# Altium schematic symbol library ISP1521.SchLib: 1 symbol
Pins are listed as number, name and electrical type; pins without a type are passive.

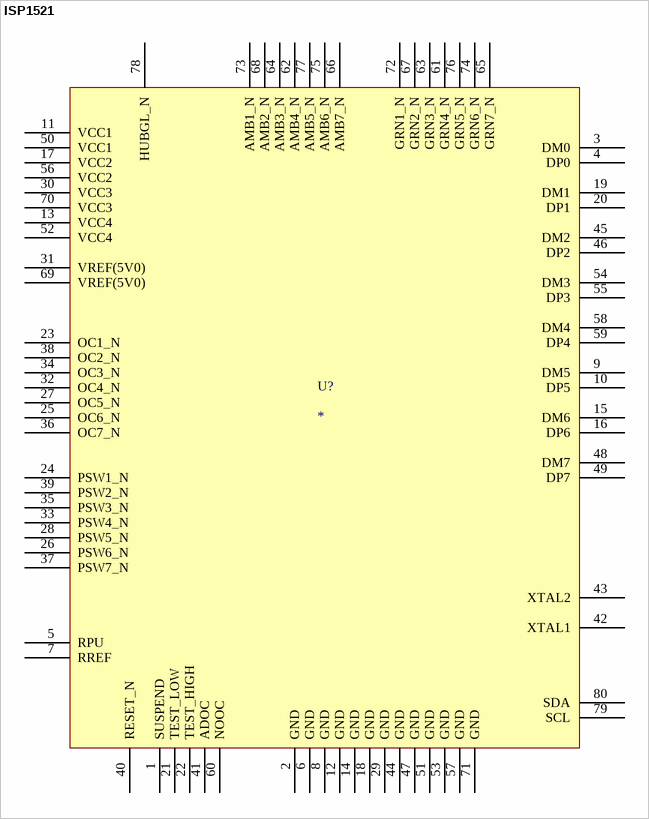
[diagram p0: symbol ISP1521]

## ISP1521
designator U?
Hi-Speed 7-Port Universal Serial Bus hub controller; Part No.: ISP1521; Manufacturer: NXP; Vendor: Digi-Key; Price Est.: $5.40
footprint SOT315-1 (LQFP80) (Footprint not found)
pins: 1 SUSPEND, 2 GND, 3 DM0, 4 DP0, 5 RPU, 6 GND, 7 RREF, 8 GND, 9 DM5, 10 DP5, 11 VCC1, 12 GND, 13 VCC4, 14 GND, 15 DM6, 16 DP6, 17 VCC2, 18 GND, 19 DM1, 20 DP1, 21 TEST_LOW, 22 TEST_HIGH, 23 OC1_N, 24 PSW1_N, 25 OC6_N, 26 PSW6_N, 27 OC5_N, 28 PSW5_N, 29 GND, 30 VCC3, 31 VREF(5V0), 32 OC4_N, 33 PSW4_N, 34 OC3_N, 35 PSW3_N, 36 OC7_N, 37 PSW7_N, 38 OC2_N, 39 PSW2_N, 40 RESET_N, 41 ADOC, 42 XTAL1, 43 XTAL2, 44 GND, 45 DM2, 46 DP2, 47 GND, 48 DM7, 49 DP7, 50 VCC1, 51 GND, 52 VCC4, 53 GND, 54 DM3, 55 DP3, 56 VCC2, 57 GND, 58 DM4, 59 DP4, 60 NOOC, 61 GRN4_N, 62 AMB4_N, 63 GRN3_N, 64 AMB3_N, 65 GRN7_N, 66 AMB7_N, 67 GRN2_N, 68 AMB2_N, 69 VREF(5V0), 70 VCC3, 71 GND, 72 GRN1_N, 73 AMB1_N, 74 GRN6_N, 75 AMB6_N, 76 GRN5_N, 77 AMB5_N, 78 HUBGL_N, 79 SCL, 80 SDA